# EAGLE library part ONET1191P(TI-LIA) (library QuantumOptics)
ONET1191P, T.I., limiting amp, 11.3Gbps, +3.3V. http://www-s.ti.com/sc/ds/onet1191p.pdf
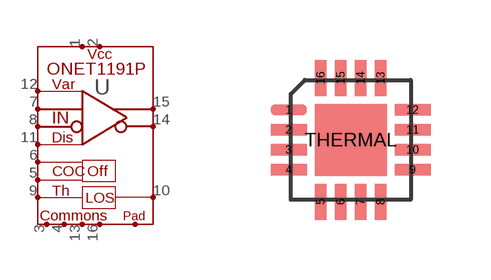
[diagram p77: symbol with the pads of MLF-16-2; footprint MLF-16-2]

Designator prefix U

## ONET1191P(TI-LIA)MLF-16(THERMAL)  [MLF-16-2]
1  VCC1
2  VCC2
3  COM1
4  COM2
5  COC-  in
6  COC+  in
7  IN+  in
8  IN-  in
9  TH  in
10  LOS  out
11  DIS  in
12  VAR  in
13  COM3
14  OUT-  out
15  OUT+  out
16  COM4
THERMAL  THERMAL

## Footprint MLF-16-2 (pad centres in mm)
MLF-16, Micro Lead Frame with 16 pins. NOTE: Must connect thermal pad to bottom ground plane with at least 4 vias! Use grid of 0.5mm or 0.02". Based on Micrel SY88953L <http://www.micrel.com/_PDF/HBW/sy88953l.pdf#page=2>, http://www.micrel.com/_PDF/HBW/sy88953l.pdf#page=2
smd 0.9 x 0.29: 1 0,0; 2 0,-0.5; 3 0,-1; 4 0,-1.5; 9 3.1,-1.5; 10 3.1,-1; 11 3.1,-0.5; 12 3.1,0
smd 0.29 x 0.9: 5 0.8,-2.3; 6 1.3,-2.3; 7 1.8,-2.3; 8 2.3,-2.3; 13 2.3,0.8; 14 1.8,0.8; 15 1.3,0.8; 16 0.8,0.8
smd 1.8 x 1.8: THERMAL 1.55,-0.75